# Altium footprint library CustomFootprints.PcbLib: 18 footprints (part 1 of 2)
Each footprint in its own frame and in the unit in brackets; x right, y up, seen from the top. Pads: shape width x height; smd on the part's side, far side on the other; paste and mask are expansions set on the pad; w line width, h text height; cw(c..) or ccw(c..) is an arc to the next point about the centre after c.
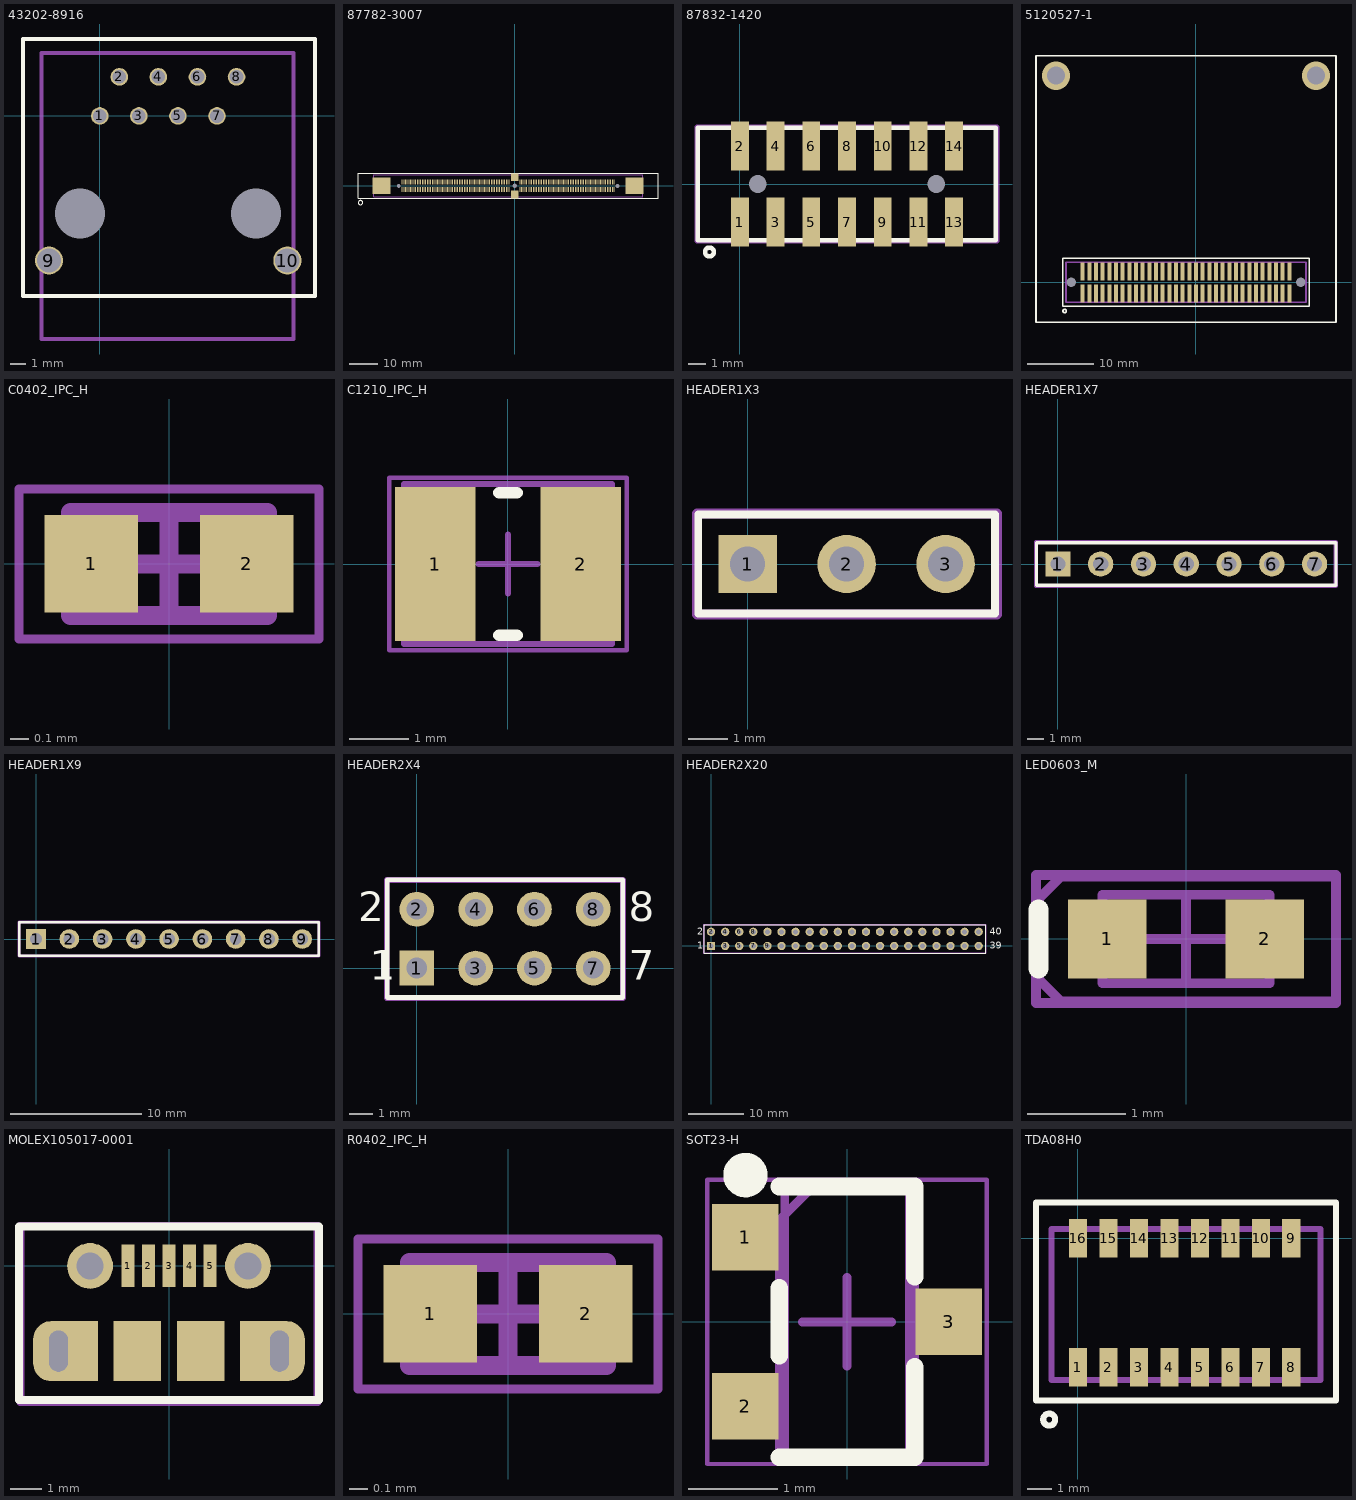
[diagram p0: the footprints below, top view; thin cyan lines are the x and y axes]

## 43202-8916 [mil] "Molex 43202-8916"
pads (12):
  round 45 hole 35: 1(0,0) 2(50,100) 3(100,0) 4(150,100) 5(200,0) 6(250,100) 7(300,0) 8(350,100)
  round 72 hole 62: 9(-130,-370) 10(480,-370)
  round 0 hole 128 unplated: ""(-50,-250) ""(400,-250)
Top Overlay:
  lines w10: -196.85,-460.63 -196.85,196.85 551.18,196.85 551.18,-460.63 -196.85,-460.63
Assembly:
  lines w10: -149.61,-570.87 496.06,-570.87 496.06,161.42 -149.61,161.42 -149.61,-570.87
  text ".Designator" at 47.24,-212.6 h78.74
3D body "432028916.stp": height 476, standoff -156, extent -147.99,-570.99 496.01,163.01

## 87782-3007 [mm] "Molex 87782-3009"
pads (251):
  rect 0.35x1.75 smd: 1(-40.2,-1.38) 2(-39.6,-1.38) 3(-39,-1.38) 4(-38.4,-1.38) 5(-37.8,-1.38) 6(-37.2,-1.38) 7(-36.6,-1.38) 8(-36,-1.38) 9(-35.4,-1.38) 10(-34.8,-1.38) 11(-34.2,-1.38) 12(-33.6,-1.38) 13(-33,-1.38) 14(-32.4,-1.38) 15(-31.8,-1.38) 16(-31.2,-1.38) 17(-30.6,-1.38) 18(-30,-1.38) 19(-29.4,-1.38) 20(-28.8,-1.38) 21(-28.2,-1.38) 22(-27.6,-1.38) 23(-27,-1.38) 24(-26.4,-1.38) 25(-25.8,-1.38) 26(-25.2,-1.38) 27(-24.6,-1.38) 28(-24,-1.38) 29(-23.4,-1.38) 30(-22.8,-1.38) 31(-22.2,-1.38) 32(-21.6,-1.38) 33(-21,-1.38) 34(-20.4,-1.38) 35(-19.8,-1.38) 36(-19.2,-1.38) 37(-18.6,-1.38) 38(-18,-1.38) 39(-17.4,-1.38) 40(-16.8,-1.38) 41(-16.2,-1.38) 42(-15.6,-1.38) 43(-15,-1.38) 44(-14.4,-1.38) 45(-13.8,-1.38) 46(-13.2,-1.38) 47(-12.6,-1.38) 48(-12,-1.38) 49(-11.4,-1.38) 50(-10.8,-1.38) 51(-10.2,-1.38) 52(-9.6,-1.38) 53(-9,-1.38) 54(-8.4,-1.38) 55(-7.8,-1.38) 56(-7.2,-1.38) 57(-6.6,-1.38) 58(-6,-1.38) 59(-5.4,-1.38) 60(-4.8,-1.38) 61(-4.2,-1.38) 62(-3.6,-1.38) 63(-3,-1.38) 64(-2.4,-1.38) 65(-1.8,-1.38) 66(1.8,-1.38) 67(2.4,-1.38) 68(3,-1.38) 69(3.6,-1.38) 70(4.2,-1.38) 71(4.8,-1.38) 72(5.4,-1.38) 73(6,-1.38) 74(6.6,-1.38) 75(7.2,-1.38) 76(7.8,-1.38) 77(8.4,-1.38) 78(9,-1.38) 79(9.6,-1.38) 80(10.2,-1.38) 81(10.8,-1.38) 82(11.4,-1.38) 83(12,-1.38) 84(12.6,-1.38) 85(13.2,-1.38) 86(13.8,-1.38) 87(14.4,-1.38) 88(15,-1.38) 89(15.6,-1.38) 90(16.2,-1.38) 91(16.8,-1.38) 92(17.4,-1.38) 93(18,-1.38) 94(18.6,-1.38) 95(19.2,-1.38) 96(19.8,-1.38) 97(20.4,-1.38) 98(21,-1.38) 99(21.6,-1.38) 100(22.2,-1.38) 101(22.8,-1.38) 102(23.4,-1.38) 103(24,-1.38) 104(24.6,-1.38) 105(25.2,-1.38) 106(25.8,-1.38) 107(26.4,-1.38) 108(27,-1.38) 109(27.6,-1.38) 110(28.2,-1.38) 111(28.8,-1.38) 112(29.4,-1.38) 113(30,-1.38) 114(30.6,-1.38) 115(31.2,-1.38) 116(31.8,-1.38) 117(32.4,-1.38) 118(33,-1.38) 119(33.6,-1.38) 120(34.2,-1.38) 121(34.8,-1.38) 122(35.4,-1.38) 123(-40.2,1.38) 124(-39.6,1.38) 125(-39,1.38) 126(-38.4,1.38) 127(-37.8,1.38) 128(-37.2,1.38) 129(-36.6,1.38) 130(-36,1.38) 131(-35.4,1.38) 132(-34.8,1.38) 133(-34.2,1.38) 134(-33.6,1.38) 135(-33,1.38) 136(-32.4,1.38) 137(-31.8,1.38) 138(-31.2,1.38) 139(-30.6,1.38) 140(-30,1.38) 141(-29.4,1.38) 142(-28.8,1.38) 143(-28.2,1.38) 144(-27.6,1.38) 145(-27,1.38) 146(-26.4,1.38) 147(-25.8,1.38) 148(-25.2,1.38) 149(-24.6,1.38) 150(-24,1.38) 151(-23.4,1.38) 152(-22.8,1.38) 153(-22.2,1.38) 154(-21.6,1.38) 155(-21,1.38) 156(-20.4,1.38) 157(-19.8,1.38) 158(-19.2,1.38) 159(-18.6,1.38) 160(-18,1.38) 161(-17.4,1.38) 162(-16.8,1.38) 163(-16.2,1.38) 164(-15.6,1.38) 165(-15,1.38) 166(-14.4,1.38) 167(-13.8,1.38) 168(-13.2,1.38) 169(-12.6,1.38) 170(-12,1.38) 171(-11.4,1.38) 172(-10.8,1.38) 173(-10.2,1.38) 174(-9.6,1.38) 175(-9,1.38) 176(-8.4,1.38) 177(-7.8,1.38) 178(-7.2,1.38) 179(-6.6,1.38) 180(-6,1.38) 181(-5.4,1.38) 182(-4.8,1.38) 183(-4.2,1.38) 184(-3.6,1.38) 185(-3,1.38) 186(-2.4,1.38) 187(-1.8,1.38) 188(1.8,1.38) 189(2.4,1.38) 190(3,1.38) 191(3.6,1.38) 192(4.2,1.38) 193(4.8,1.38) 194(5.4,1.38) 195(6,1.38) 196(6.6,1.38) 197(7.2,1.38) 198(7.8,1.38) 199(8.4,1.38) 200(9,1.38) 201(9.6,1.38) 202(10.2,1.38) 203(10.8,1.38) 204(11.4,1.38) 205(12,1.38) 206(12.6,1.38) 207(13.2,1.38) 208(13.8,1.38) 209(14.4,1.38) 210(15,1.38) 211(15.6,1.38) 212(16.2,1.38) 213(16.8,1.38) 214(17.4,1.38) 215(18,1.38) 216(18.6,1.38) 217(19.2,1.38) 218(19.8,1.38) 219(20.4,1.38) 220(21,1.38) 221(21.6,1.38) 222(22.2,1.38) 223(22.8,1.38) 224(23.4,1.38) 225(24,1.38) 226(24.6,1.38) 227(25.2,1.38) 228(25.8,1.38) 229(26.4,1.38) 230(27,1.38) 231(27.6,1.38) 232(28.2,1.38) 233(28.8,1.38) 234(29.4,1.38) 235(30,1.38) 236(30.6,1.38) 237(31.2,1.38) 238(31.8,1.38) 239(32.4,1.38) 240(33,1.38) 241(33.6,1.38) 242(34.2,1.38) 243(34.8,1.38) 244(35.4,1.38)
  rect 6.5x6 smd: ""(-47.6,0) ""(42.75,0)
  round 1 hole 1.4 unplated: ""(-41.4,0) ""(36.6,0)
  rect 2.8x2.77 smd: ""(0,-3.08) ""(0,3.08)
  round 1 hole 1.5 unplated: ""(0,0)
Top Overlay:
  circle w0.254: c-55.05,-6 r0.781
  lines w0.254: -55.95,-4.5 10.3,-4.5 50.85,-4.5 51.1,-4.5 51.1,0 51.1,4.5 50.55,4.5 -25.35,4.5 -55.95,4.5 -55.95,0 -55.95,-4.5
Assembly:
  lines w0.254: -50.4,-3.9 -50.4,4 45.6,4 45.6,-3.9 -50.4,-3.9
  text ".Designator" at -2.4,-1 h2
3D body "877822001.stp": height 16.54, standoff -1.41, extent -50.4,-3.9 45.6,4

## 87832-1420 [mm] "Molex 87832-1420"
height 10
pads (16):
  rect 1x2.75 smd: 1(0,-2.13) 2(0,2.13) 3(2,-2.13) 4(2,2.13) 5(4,-2.13) 6(4,2.13) 7(6,-2.13) 8(6,2.13) 9(8,-2.13) 10(8,2.13) 11(10,-2.13) 12(10,2.13) 13(12,-2.13) 14(12,2.13)
  round 0 hole 1 unplated: ""(1,0) ""(11,0)
Top Overlay:
  circle w0.254: c-1.7,-3.8 r0.25
  lines w0.254: 5.975,-3.15 -2.35,-3.15 -2.35,0 -2.35,3.15 5.975,3.15 ; 6,-3.15 14.325,-3.15 14.325,0 14.325,3.15 6,3.15
Assembly:
  lines w0.254: -2.4,-3.2 14.4,-3.2 14.4,3.2 -2.4,3.2 -2.4,-3.2
  text ".Designator" at 2.4,-0.8 h2
3D body "878321420.stp": height 7.6, standoff -0.75, extent -2.325,-3.15 14.325,3.15

## 5120527-1 [mm] "TE 5120527-1"
height 8.5
pads (66):
  rect 0.6x2.7 smd: 1(-17,-1.65) 2(-17,1.65) 3(-16,-1.65) 4(-16,1.65) 5(-15,-1.65) 6(-15,1.65) 7(-14,-1.65) 8(-14,1.65) 9(-13,-1.65) 10(-13,1.65) 11(-12,-1.65) 12(-12,1.65) 13(-11,-1.65) 14(-11,1.65) 15(-10,-1.65) 16(-10,1.65) 17(-9,-1.65) 18(-9,1.65) 19(-8,-1.65) 20(-8,1.65) 21(-7,-1.65) 22(-7,1.65) 23(-6,-1.65) 24(-6,1.65) 25(-5,-1.65) 26(-5,1.65) 27(-4,-1.65) 28(-4,1.65) 29(-3,-1.65) 30(-3,1.65) 31(-2,-1.65) 32(-2,1.65) 33(-1,-1.65) 34(-1,1.65) 35(0,-1.65) 36(0,1.65) 37(1,-1.65) 38(1,1.65) 39(2,-1.65) 40(2,1.65) 41(3,-1.65) 42(3,1.65) 43(4,-1.65) 44(4,1.65) 45(5,-1.65) 46(5,1.65) 47(6,-1.65) 48(6,1.65) 49(7,-1.65) 50(7,1.65) 51(8,-1.65) 52(8,1.65) 53(9,-1.65) 54(9,1.65) 55(10,-1.65) 56(10,1.65) 57(11,-1.65) 58(11,1.65) 59(12,-1.65) 60(12,1.65) 61(13,-1.65) 62(13,1.65) 63(14,-1.65) 64(14,1.65)
  rect 0x0 hole 1.4 unplated: ""(-18.7,0) ""(15.7,0)
via 18,31 diameter 4.267 hole 2.7
via -21,31 diameter 4.267 hole 2.7
Top Overlay:
  circle w0.254: c-19.7,-4.3 r0.25
  lines w0.254: -24,-6 -24,34 21,34 21,-6 -24,-6 ; -20,-3.6 17,-3.6 17,3.6 -20,3.6 -20,-3.6
Assembly:
  lines w0.254: -19.5,-3 -19.5,3 16.5,3 16.5,-3 -19.5,-3
  text ".Designator" at -2.2,-0.9 h2
3D body "c-1-5120527-1-a-3d.stp": height 8.4, standoff -0.71, extent -19.45,-3.025 16.45,3.025

## C0402_IPC_H [mm] "Chip Capacitor, 2-Leads, Body 1.00x0.50mm, IPC High Density"
height 0.55
pads (2):
  rect 0.5x0.52 smd: 1(-0.415,0) 2(0.415,0)
Mechanical 13:
  lines w0.1: -0.525,-0.275 -0.525,0.275 0.525,0.275 0.525,-0.275 -0.525,-0.275
Mechanical 15:
  lines w0.05: -0.8,-0.4 -0.8,0.4 0.8,0.4 0.8,-0.4 -0.8,-0.4
  lines w0.1: -0.275,0 0.275,0 ; 0,-0.275 0,0.275
Assembly:
  lines w0.05: -0.8,-0.4 -0.8,0.4 0.8,0.4 0.8,-0.4 -0.8,-0.4
  text ".Designator" at -0.5,-0.1 h0.3
3D body "C0402_IPC_H.step": height 0.55, standoff 0, extent -0.525,-0.275 0.525,0.275

## C1210_IPC_H [mm] "Chip Capacitor, 2-Leads, Body 3.20x2.50mm, IPC High Density"
height 2.7
pads (2):
  rect 1.35x2.6 smd: 1(-1.225,0) 2(1.225,0)
Top Overlay:
  lines w0.2: -0.15,-1.2 0.15,-1.2 ; -0.15,1.2 0.15,1.2
Mechanical 13:
  lines w0.1: -1.75,-1.35 1.75,-1.35 1.75,1.35 -1.75,1.35 -1.75,-1.35
Mechanical 15:
  lines w0.05: -2,-1.45 2,-1.45 2,1.45 -2,1.45 -2,-1.45
  lines w0.1: -0.5,0 0.5,0 ; 0,-0.5 0,0.5
Assembly:
  lines w0.08: -2,-1.45 -2,1.45 2,1.45 2,-1.45 -2,-1.45
  text ".Designator" at -1.075,-0.325 h0.8
3D body "C1210_IPC_H.step": height 2.7, standoff 0, extent -1.75,-1.35 1.75,1.35

## HEADER1X3 [mm] "Pin Header; 3 Position"
height 8
pads (3):
  rect 1.5x1.5 hole 0.9: 1(0,0)
  round 1.5 hole 0.9: 2(2.54,0) 3(5.08,0)
Top Overlay:
  lines w0.2: -1.27,-1.27 -1.27,1.27 6.35,1.27 6.35,-1.27 -1.27,-1.27
Assembly:
  lines w0.254: -1.3,-1.3 6.4,-1.3 6.4,1.3 -1.3,1.3 -1.3,-1.3
  text ".Designator" at 0.7,-0.5 h1

## HEADER1X7 [mm] "Pin Header; 7 Position"
height 8
pads (7):
  rect 1.5x1.5 hole 0.9: 1(0,0)
  round 1.5 hole 0.9: 2(2.54,0) 3(5.08,0) 4(7.62,0) 5(10.16,0) 6(12.7,0) 7(15.24,0)
Top Overlay:
  lines w0.2: -1.27,-1.27 16.51,-1.27 16.51,1.27 -1.27,1.27 -1.27,-1.27
Assembly:
  lines w0.254: -1.3,-1.3 -1.3,1.3 16.5,1.3 16.5,-1.3 -1.3,-1.3
  text ".Designator" at 5.5,-0.5 h1

## HEADER1X9 [mm] "Pin Header; 9 Position"
height 8
pads (9):
  rect 1.5x1.5 hole 0.9: 1(0,0)
  round 1.5 hole 0.9: 2(2.54,0) 3(5.08,0) 4(7.62,0) 5(10.16,0) 6(12.7,0) 7(15.24,0) 8(17.78,0) 9(20.32,0)
Top Overlay:
  lines w0.2: -1.27,-1.27 21.59,-1.27 21.59,1.27 -1.27,1.27 -1.27,-1.27
Assembly:
  lines w0.254: -1.3,-1.3 21.6,-1.3 21.6,1.3 -1.3,1.3 -1.3,-1.3
  text ".Designator" at 7.4,-0.5 h1

## HEADER2X4 [mm] "Pin Header; 4x2 Position"
height 8
pads (8):
  rect 1.5x1.5 hole 0.9: 1(0,0)
  round 1.5 hole 0.9: 2(0,2.54) 3(2.54,0) 4(2.54,2.54) 5(5.08,0) 6(5.08,2.54) 7(7.62,0) 8(7.62,2.54)
Top Overlay:
  lines w0.2: -1.27,-1.27 -1.27,3.81 8.89,3.81 8.89,-1.27 -1.27,-1.27
  text "8" at 9.144,2.032 h1.27
  text "7" at 9.144,-0.508 h1.27
  text "1" at -2.032,-0.508 h1.27
  text "2" at -2.54,2.032 h1.27
Assembly:
  lines w0.254: -1.3,-1.3 -1.3,3.8 8.9,3.8 8.9,-1.3 -1.3,-1.3
  text ".Designator" at 0.6,0.1 h2.5

## HEADER2X20 [mm] "Pin Header; 20x2 Position"
height 8
pads (40):
  rect 1.5x1.5 hole 0.9: 1(0,0)
  round 1.5 hole 0.9: 2(0,2.54) 3(2.54,0) 4(2.54,2.54) 5(5.08,0) 6(5.08,2.54) 7(7.62,0) 8(7.62,2.54) 9(10.16,0) 10(10.16,2.54) 11(12.7,0) 12(12.7,2.54) 13(15.24,0) 14(15.24,2.54) 15(17.78,0) 16(17.78,2.54) 17(20.32,0) 18(20.32,2.54) 19(22.86,0) 20(22.86,2.54) 21(25.4,0) 22(25.4,2.54) 23(27.94,0) 24(27.94,2.54) 25(30.48,0) 26(30.48,2.54) 27(33.02,0) 28(33.02,2.54) 29(35.56,0) 30(35.56,2.54) 31(38.1,0) 32(38.1,2.54) 33(40.64,0) 34(40.64,2.54) 35(43.18,0) 36(43.18,2.54) 37(45.72,0) 38(45.72,2.54) 39(48.26,0) 40(48.26,2.54)
Top Overlay:
  lines w0.2: -1.27,-1.27 49.53,-1.27 49.53,3.81 -1.27,3.81 -1.27,-1.27
  text "1" at -2.54,-0.508 h1.27
  text "2" at -2.54,2.032 h1.27
  text "40" at 50.292,2.032 h1.27
  text "39" at 50.292,-0.508 h1.27
Assembly:
  lines w0.254: -1.3,-1.3 49.4,-1.3 49.5,-1.2 49.5,3.8 -1.3,3.8 -1.3,-1.3
  text ".Designator" at 18.4,0.1 h2.5

## LED0603_M [mm] "Chip LED, 2-Leads, Body 1.6x0.8mm, IPC Medium Density"
height 0.68
pads (2):
  rect 0.8x0.8 smd: 1(-0.8,0) 2(0.8,0)
Top Overlay:
  lines w0.2: -1.5,-0.3 -1.5,0.3
Mechanical 13:
  lines w0.1: -0.85,-0.45 -0.85,0.45 0.85,0.45 0.85,-0.45 -0.85,-0.45
Mechanical 15:
  lines w0.1: -0.45,0 0.45,0 ; 0,-0.45 0,0.45 ; -1.525,-0.65 -1.525,0.65 1.525,0.65 1.525,-0.65 -1.525,-0.65
Assembly:
  lines w0.102: -1.524,-0.381 -1.524,0.381 -1.27,0.635 1.524,0.635 1.524,-0.635 -1.27,-0.635 -1.524,-0.381
  text ".Designator" at -0.635,-0.127 h0.4
3D body "WL-SMCW_0603_LED.stp": height 0.7, standoff 0, extent -0.8,-0.4 0.8,0.4

## MOLEX105017-0001 [mm] "Connector; Micro USB Bottom Mount Receptable, B Type"
height 1.85
pads (13):
  rect 0.4x1.35 smd: 1(-1.3,0) 2(-0.65,0) 3(0,0) 4(0.65,0) 5(1.3,0)
  rrect70% 1.6x1.9 hole 0.6 slot 1.3 at 90 deg: ""(-3.5,-2.7) ""(3.5,-2.7)
  rect 1.2x1.9 smd: ""(-2.85,-2.7) ""(2.85,-2.7)
  round 1.45 hole 0.85: ""(-2.5,0) ""(2.5,0)
  rect 1.5x1.9 smd: ""(-1,-2.7) ""(1,-2.7)
Top Overlay:
  lines w0.254: -4.75,-4.25 -4.75,1.25 4.75,1.25 4.75,-4.25 -4.75,-4.25
Assembly:
  lines w0.25: -4.699,-4.318 4.699,-4.318 4.699,1.27 -4.699,1.27 -4.699,-4.318
  text ".Designator" at -1.397,-2.286 h2
3D body "1050170001.stp": height 2.73, standoff -0.58, extent -4.1,-5.3 4.1,0.1

## R0402_IPC_H [mm] "Chip Resistor, 2-Leads, Body 1.00x0.50mm, IPC High Density"
height 0.4
pads (2):
  rect 0.5x0.52 smd: 1(-0.415,0) 2(0.415,0)
Mechanical 13:
  lines w0.1: -0.525,-0.275 0.525,-0.275 0.525,0.275 -0.525,0.275 -0.525,-0.275
Mechanical 15:
  lines w0.05: -0.8,-0.4 0.8,-0.4 0.8,0.4 -0.8,0.4 -0.8,-0.4
  lines w0.1: -0.275,0 0.275,0 ; 0,-0.275 0,0.275
Assembly:
  lines w0.05: -0.8,-0.4 0.8,-0.4 0.8,0.4 -0.8,0.4 -0.8,-0.4
  text ".Designator" at -0.5,-0.1 h0.3
3D body "R0402_IPC_H.step": height 0.4, standoff 0, extent -0.525,-0.275 0.525,0.275

## SOT23-H [mm] "SOT23, 3-Leads, Body 2.90x2.45mm, Pitch 0.95mm, IPC High Density"
height 1.1
pads (3):
  rect 0.75x0.75 smd: 1(-1.145,0.95) 2(-1.145,-0.95) 3(1.145,0)
Top Overlay:
  circle w0.25: c-1.143,1.651 r0.125
  lines w0.2: -0.762,-1.524 0.762,-1.524 0.762,-0.508 ; -0.762,-0.381 -0.762,0.381 ; -0.762,1.524 0.762,1.524 0.762,0.508
Mechanical 13:
  lines w0.1: -0.7,-1.5 0.7,-1.5 0.7,1.5 -0.7,1.5 -0.7,-1.5
Mechanical 15:
  lines w0.05: -1.575,-1.6 1.575,-1.6 1.575,1.6 -1.575,1.6 -1.575,-1.6
  lines w0.1: -0.5,0 0.5,0 ; 0,-0.5 0,0.5
Assembly:
  lines w0.1: -0.762,-1.524 -0.762,1.143 -0.381,1.524 0.762,1.524 0.762,-1.524 -0.762,-1.524
  text ".Designator" at 0.254,-0.889 h0.5
3D body: height 1.1, standoff 0.05, extent -0.7,-1.5 0.7,1.5

## TDA08H0 [mm] "C&K TDA08H0"
height 3
pads (16):
  rect 0.76x1.6 smd: 1(0,-5.37) 2(1.27,-5.37) 3(2.54,-5.37) 4(3.81,-5.37) 5(5.08,-5.37) 6(6.35,-5.37) 7(7.62,-5.37) 8(8.89,-5.37) 9(8.89,0) 10(7.62,0) 11(6.35,0) 12(5.08,0) 13(3.81,0) 14(2.54,0) 15(1.27,0) 16(0,0)
Top Overlay:
  circle w0.254: c-1.2,-7.55 r0.25
  lines w0.254: -1.75,-6.75 -1.75,1.5 10.75,1.5 10.75,-6.75 -1.75,-6.75
Assembly:
  lines w0.254: -1.1,-5.9 10.1,-5.9 10.1,0.4 -1,0.4 -1.1,0.4 -1.1,-5.9
  text ".Designator" at 1.9,-3.4 h2
3D body "tda08h0j.stp": height 2.45, standoff 0.05, extent -1.145,-5.9 10.145,0.45